# EAGLE library part 7490140142 (library WE-LAN)
WE-LAN LAN Transformer Characteristics Suitable for industrial temperatures from –40 °C up to +125 °C Different version available from 1.5 kV isolation to 6 kV. HPLE version Additional CMC for higher attenuation Non PoE, PoE and PoE++ up to 2 A PoE up to 150 W and speeds up to 1 Gbit/s Available in SMT Compliant with standards: IEEE 802.3u, IEEE 802.3ab, IEEE 802.3af, IEEE 802.3at and IEEE 802.3bt UL Recognized Applications Compatible to Industrial Ethernet systems like EtherCAT or Profinet Compliant with most IC’s for Ethernet applications such as Microchip, Texas Instruments, Broadcom, Linear Technology Router, switches, sensors, robotics, automation, IP cameras, IoT applications Details see: www.we-online.com/en/components/products/WE-LAN Created by Ella Wu, 2020-07-08 2020 (C) Würth Elektronik
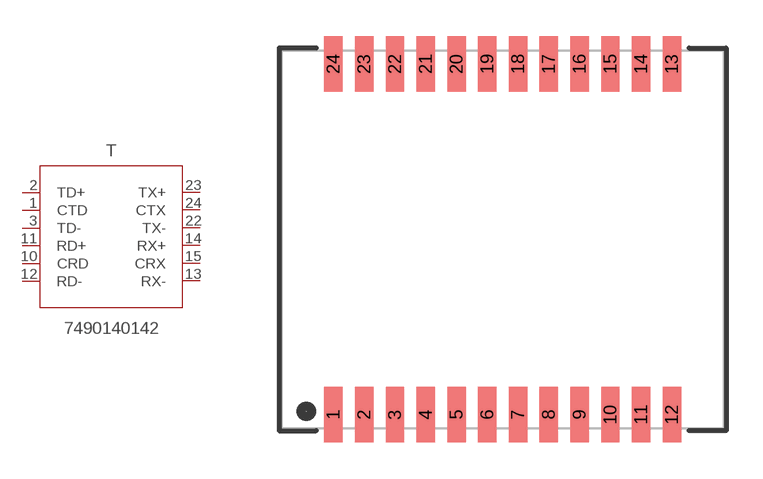
[diagram p15: symbol with the pads of 7490140142; footprint 7490140142]

Designator prefix T

## 7490140142 (DATA-RATE: 10/100BASE-T; DATASHEET: https://www.we-online.com/redexpert/spec/7490140142?ae; HPLE: No; IMPROVED-CMRR: No; L: 350 uH; MOUNT: SMT; OPERATING-TEMPERATURE: -40 °C up to +85 °C; PART-NUMBER: 7490140142; POE: PoE (up to 350 mA); PORTS: 1; VALUE: 7490140142; VT: 4000 V (RMS))  [7490140142]
1  CTD  pas
2  TD+  pas
3  TD-  pas
10  CRD  pas
11  RD+  pas
12  RD-  pas
13  RX-  pas
14  RX+  pas
15  CRX  pas
22  TX-  pas
23  TX+  pas
24  CTX  pas

## Footprint 7490140142 (pad centres in mm)
WE-LAN LAN Transformer 10/100BASE-T, 1Port, SMT
smd 0.76 x 2.29: 1 -6.985,-7.24; 2 -5.715,-7.24; 3 -4.445,-7.24; 4 -3.175,-7.24; 5 -1.905,-7.24; 6 -0.635,-7.24; 7 0.635,-7.24; 8 1.905,-7.24; 9 3.175,-7.24; 10 4.445,-7.24; 11 5.715,-7.24; 12 6.985,-7.24; 13 6.985,7.24; 14 5.715,7.24; 15 4.445,7.24; 16 3.175,7.24; 17 1.905,7.24; 18 0.635,7.24; 19 -0.635,7.24; 20 -1.905,7.24; 21 -3.175,7.24; 22 -4.445,7.24; 23 -5.715,7.24; 24 -6.985,7.24